# EAGLE library part M4X2 (library 00shaunc)
4x2-Way Header Molex 4x2-way header. Use with Farnell No.: xxx.
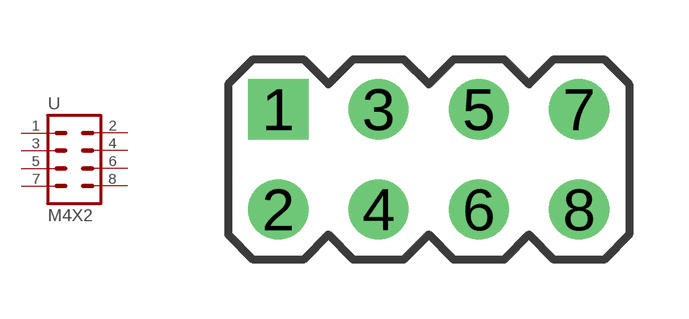
[diagram p7: symbol with the pads of MOLEX-2X4; footprint MOLEX-2X4]

Designator prefix -

## M4X2  [MOLEX-2X4]
1  1  pas
2  2  pas
3  3  pas
4  4  pas
5  5  pas
6  6  pas
7  7  pas
8  8  pas

## Footprint MOLEX-2X4 (pad centres in mm)
drill 1.016 square: 1 -3.81,1.27
drill 1.016: 2 -3.81,-1.27; 3 -1.27,1.27; 4 -1.27,-1.27; 5 1.27,1.27; 6 1.27,-1.27; 7 3.81,1.27; 8 3.81,-1.27